# Altium schematic symbol library SCH - POWER - MODULE - TRACO - TMH 0505S.SCHLIB: 1 symbol
Pins are listed as number, name and electrical type; pins without a type are passive.

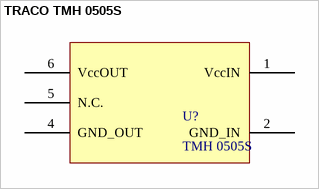
[diagram p0: symbol TRACO TMH 0505S]

## TRACO TMH 0505S
designator U?, comment TMH 0505S
5V/5V DC-DC Isolation Converter
footprint SIL-6(7) (SIP; 7 Leads (1 Absent); Body 19.5 x 6 mm (LxW typ); Pitch 2.54 mm)
pins: 1 VccIN, 2 GND_IN, 4 GND_OUT, 5 N.C., 6 VccOUT